# Altium footprint library WE-PD_1280.PcbLib: 1 footprints
Each footprint in its own frame and in the unit in brackets; x right, y up, seen from the top. Pads: shape width x height; smd on the part's side, far side on the other; paste and mask are expansions set on the pad; w line width, h text height; cw(c..) or ccw(c..) is an arc to the next point about the centre after c.
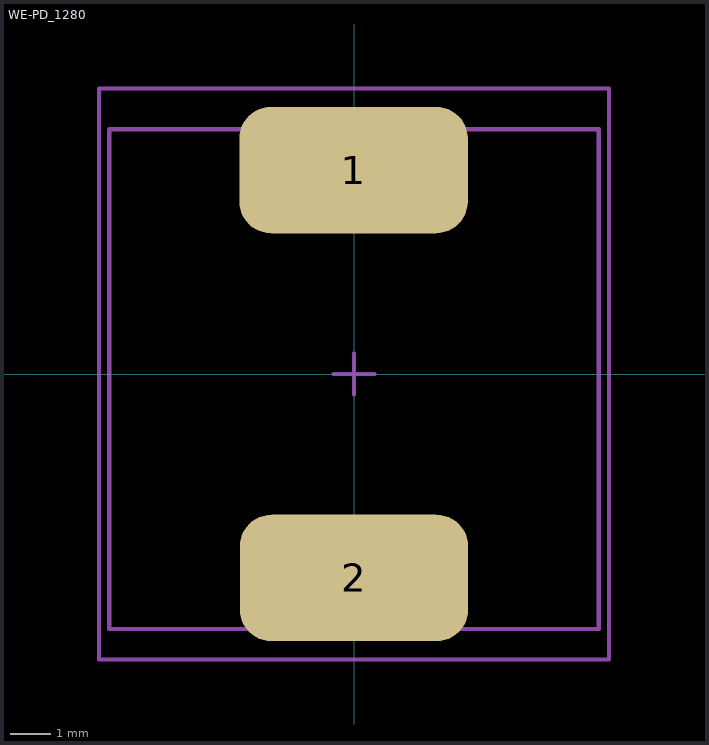
[diagram p0: the footprint, top view; thin cyan lines are the x and y axes]

## WE-PD_1280 [mm]
pads (2):
  rrect50% 5.6x3.1 smd mask+0.05: 1(-0.011,5) 2(0,-5)
Top Assembly:
  circle w0.1: c0,4.75 r0.559
  lines w0.1: -6,-6.25 -6,6 6,6 6,-6.25 -6,-6.25
Top Courtyard:
  lines w0.1: -0.5,0 0.5,0 ; 0,-0.5 0,0.5 ; -6.25,-7 -6.25,7 6.25,7 6.25,-7 -6.25,-7
3D body "STP_WE-PD1280clip_7447707xxx (rev1).stp": height 7.8, standoff 0.03, extent -5.989,-6.007 6.011,6.135